# EAGLE library part NVT2002 (library nxp)
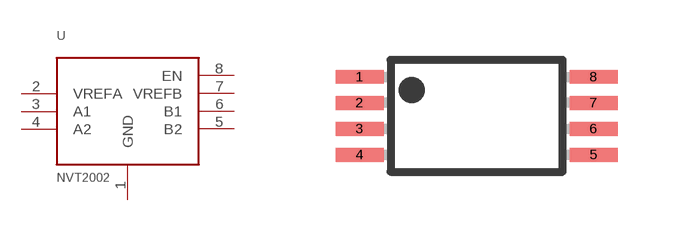
[diagram p0: symbol with the pads of TSSOP8; footprint TSSOP8]

Designator prefix -

## NVT2002TSSOP8  [TSSOP8]
1  GND
2  VREFA
3  A1
4  A2
5  B2
6  B1
7  VREFB
8  EN

## Footprint TSSOP8 (pad centres in mm)
smd 1.2 x 0.35: 1 -2.925,0.975; 2 -2.925,0.325; 3 -2.925,-0.325; 4 -2.925,-0.975; 5 2.925,-0.975; 6 2.925,-0.325; 7 2.925,0.325; 8 2.925,0.975